# EAGLE library part RJSAE-528X-02 (library con-amphenol)
2x1 RJ45 STACKABLE JACK AMPHENOL
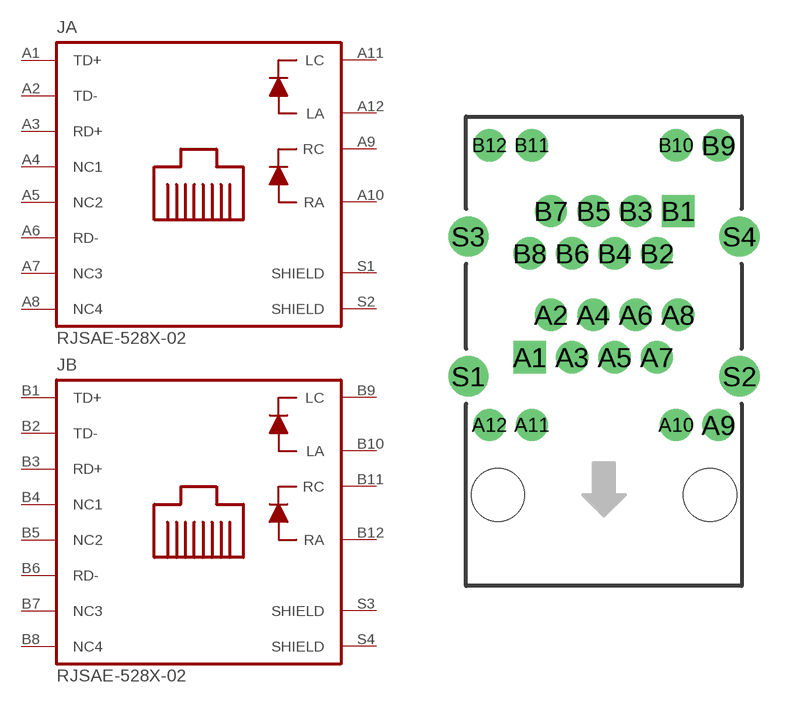
[diagram p10: symbol with the pads of RJSAE-528X-02; footprint RJSAE-528X-02]

Designator prefix J; gates A=RJSAE+LEDS B=RJSAE+LEDS

## RJSAE-528X-02  [RJSAE-528X-02]
A1  A:TD+  pas
A2  A:TD-  pas
A3  A:RD+  pas
A4  A:NC1  pas
A5  A:NC2  pas
A6  A:RD-  pas
A7  A:NC3  pas
A8  A:NC4  pas
A9  A:RC  pas
A10  A:RA  pas
A11  A:LC  pas
A12  A:LA  pas
B1  B:TD+  pas
B2  B:TD-  pas
B3  B:RD+  pas
B4  B:NC1  pas
B5  B:NC2  pas
B6  B:RD-  pas
B7  B:NC3  pas
B8  B:NC4  pas
B9  B:LC  pas
B10  B:LA  pas
B11  B:RC  pas
B12  B:RA  pas
S1  A:SHIELD  pas
S2  A:SHIELD  pas
S3  B:SHIELD  pas
S4  B:SHIELD  pas

## Footprint RJSAE-528X-02 (pad centres in mm)
2X1 MODULAR JACK 8 position, 8 pin, w/LED's
drill 1 pad 1.93 square: A1 -4.445,8.255; B1 4.445,17.018
drill 1 pad 1.93: A2 -3.175,10.795; A3 -1.905,8.255; A4 -0.635,10.795; A5 0.635,8.255; A6 1.905,10.795; A7 3.175,8.255; A8 4.445,10.795; A9 6.858,4.191; A10 4.318,4.191; A11 -4.318,4.191; A12 -6.858,4.191; B2 3.175,14.478; B3 1.905,17.018; B4 0.635,14.478; B5 -0.635,17.018; B6 -1.905,14.478; B7 -3.175,17.018; B8 -4.445,14.478; B9 6.858,20.955; B10 4.318,20.955; B11 -4.318,20.955; B12 -6.858,20.955
drill 1.6: S1 -8.128,7.112; S2 8.128,7.112; S3 -8.128,15.494; S4 8.128,15.494
hole 3.2 at 6.35,0
hole 3.2 at -6.35,0